# Altium footprint library Wurth_Elektronik_Passive_rev16a.PCBLIB: 810 footprints (part 47 of 51)
Each footprint in its own frame and in the unit in brackets; x right, y up, seen from the top. Pads: shape width x height; smd on the part's side, far side on the other; paste and mask are expansions set on the pad; w line width, h text height; cw(c..) or ccw(c..) is an arc to the next point about the centre after c.
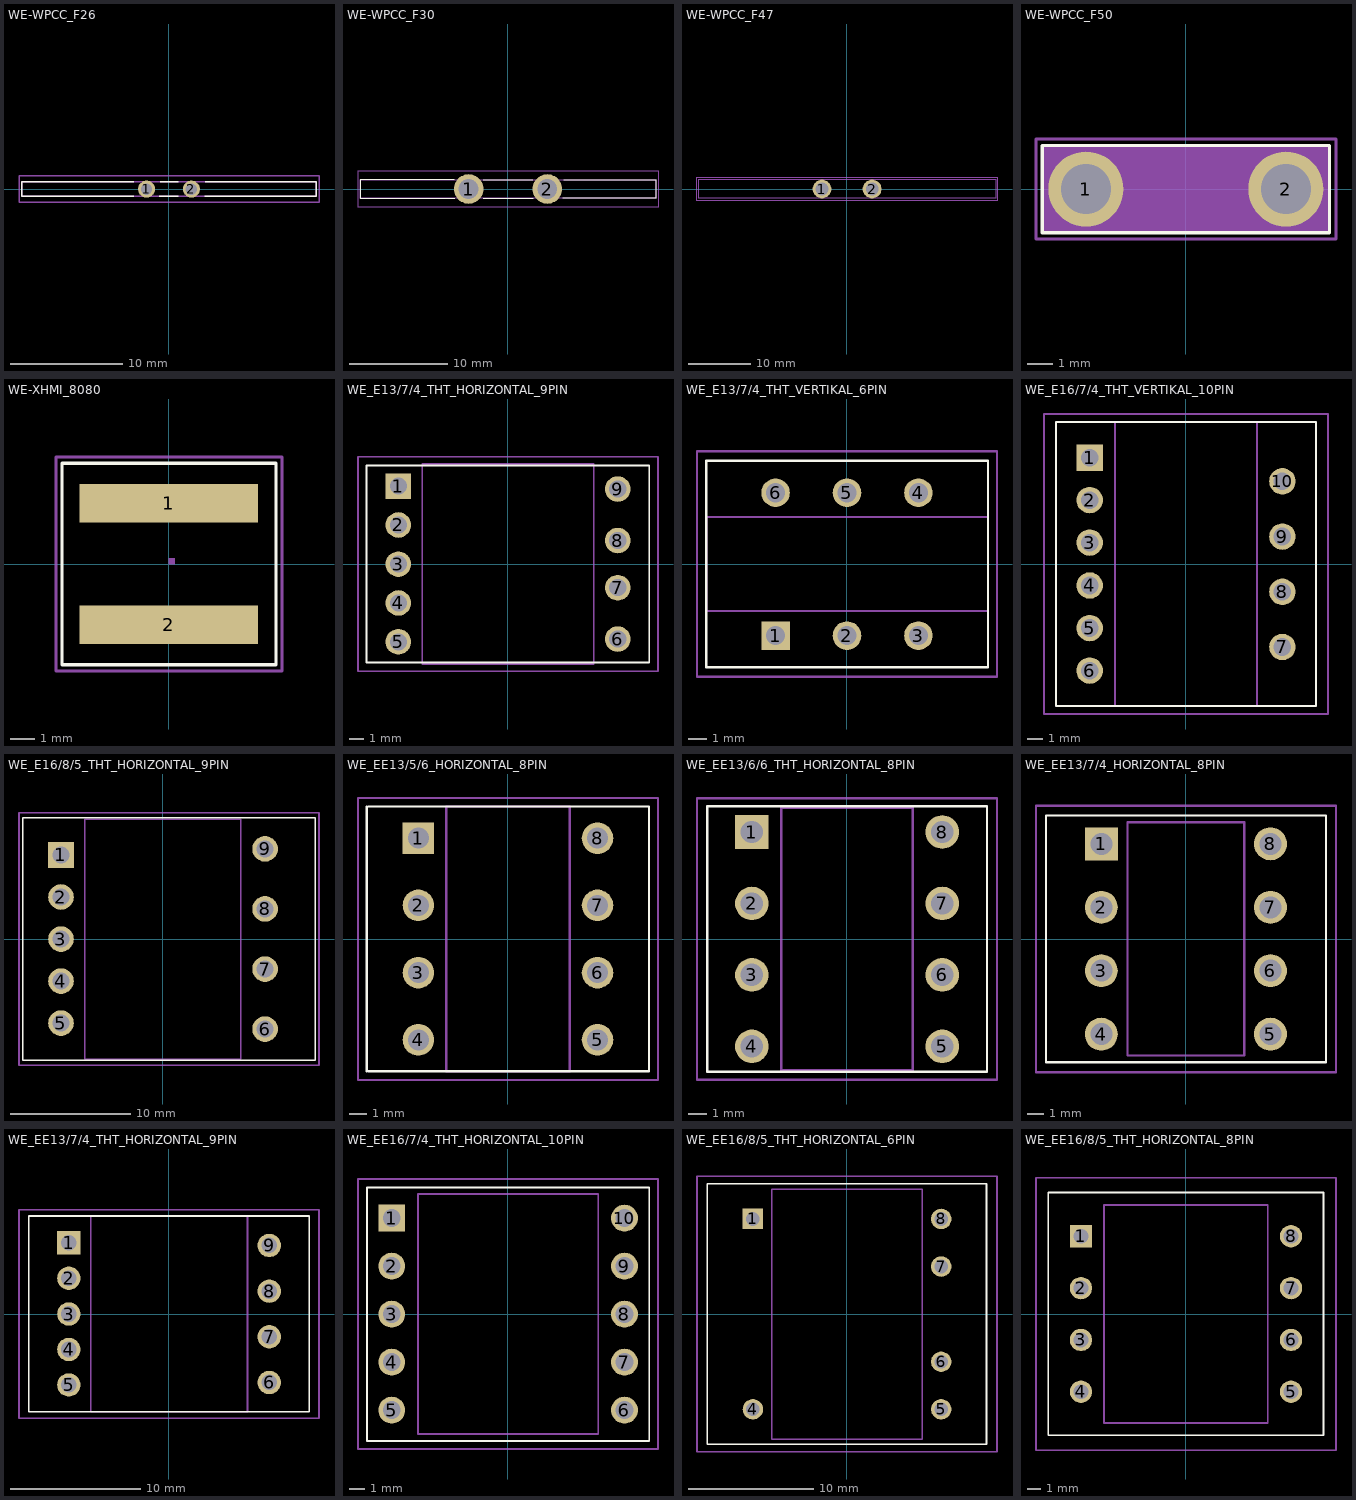
[diagram p46: the footprints below, top view; thin cyan lines are the x and y axes]

## WE-WPCC_F26 [mil]
pads (2):
  round 60 hole 40: 1(-78.74,0) 2(79,0)
Top Overlay:
  lines w5: -124.41,-25.79 -518.11,-25.79 -518.11,26 -124.41,26 ; -33.46,-25.79 33,-25.79 ; -30.32,26 32,26 ; 126,-25.79 519,-25.79 519,26 127,26
Mechanical 2:
  text ">Name" at -78.74,75 h77.5
Mechanical 4:
  text ">Value" at -78.35,-112.6 h77.5
Mechanical 16:
  lines w5: -517.72,-25.79 518,-25.79 518,26 -517.72,26 -517.72,-25.79
Mechanical 27:
  lines w5: -527.56,-46.06 528,-46.06 528,47 -527.56,47 -527.56,-46.06

## WE-WPCC_F30 [mil]
pads (2):
  round 118.5 hole 79: 1(-157.48,0) 2(158,0)
Top Overlay:
  lines w5: -215.35,38 -590.55,38 -590.55,-37.4 -212.99,-37.4 ; -98.43,-37.4 101,-37.4 ; -98.03,38 99,38 ; 220,-37.4 591,-37.4 591,38 223,38
Mechanical 2:
  text ">Name" at -94.49,99 h77.5
Mechanical 4:
  text ">Value" at -102.36,-133.86 h77.5
Mechanical 16:
  lines w5: -590.55,-37.4 591,-37.4 591,38 -590.55,38 -590.55,-37.4
Mechanical 27:
  lines w5: -600.39,-72.83 601,-72.83 601,73 -600.39,73 -600.39,-72.83

## WE-WPCC_F47 [mil]
pads (2):
  round 118.5 hole 79: 1(-157.48,0) 2(158,0)
Mechanical 2:
  text ">Name" at -94.49,99 h77.5
Mechanical 4:
  text ">Value" at -102.36,-133.86 h77.5
Mechanical 16:
  lines w5: -935.04,-59.06 936,-59.06 936,60 -935.04,60 -935.04,-59.06
Mechanical 27:
  lines w5: -944.88,-72.83 945,-72.83 945,73 -944.88,73 -944.88,-72.83

## WE-WPCC_F50 [mil]
pads (2):
  round 118.5 hole 79: 1(-157.48,0) 2(158,0)
Top Overlay:
  lines w5: -226.38,-68.9 -226.38,69 227,69 227,-68.9 -226.38,-68.9
Mechanical 2:
  text ">NAME" at -150,100 h77.5
Mechanical 4:
  text ">VALUE" at -150,-150 h77.5
Mechanical 10:
  rectangle: -226.38,-68.9 227,69
Mechanical 27:
  lines w5: -236.22,-78.74 -236.22,79 237,79 237,-78.74 -236.22,-78.74

## WE-XHMI_8080 [mil]
pads (2):
  rect 290x63 smd: 1(0,99) 2(0,-98.43)
Top Overlay:
  lines w5: -173.23,-163.39 174,-163.39 174,164 -173.23,164 -173.23,-163.39
Mechanical 2:
  text ">NAME" at -200,200 h77.5
Mechanical 4:
  text ">VALUE" at -200,-250 h77.5
Mechanical 10:
  region: 0,0 10,0 10,10 0,10
Mechanical 27:
  lines w5: -183.07,-173.23 184,-173.23 184,174 -183.07,174 -183.07,-173.23

## WE_E13/7/4_THT_HORIZONTAL_9PIN [mil]
pads (9):
  rect 70.5x70.5 hole 47: 1(-302.17,215)
  round 70.5 hole 47: 2(-302.17,108) 3(-302.17,0) 4(-302.17,-107.09) 5(-302.17,-214.17) 6(303,-206.69) 7(303,-64.96) 8(303,65) 9(303,207)
Top Overlay:
  lines w5: -389.76,-271.65 390,-271.65 390,272 -389.76,272 -389.76,-271.65
Mechanical 2:
  text ">NAME" at -334.65,296 h77.5
Mechanical 4:
  text ">VALUE" at -334.65,-354.33 h77.5
Mechanical 10:
  lines w5: -236.22,-275.59 237,-275.59 237,276 -236.22,276 -236.22,-275.59
Mechanical 27:
  lines w5: -413.39,-295.28 414,-295.28 414,296 -413.39,296 -413.39,-295.28

## WE_E13/7/4_THT_VERTIKAL_6PIN [mil]
pads (6):
  rect 60x60 hole 40: 1(-150,-150)
  round 60 hole 40: 2(0,-150) 3(150,-150) 4(150,150) 5(0,150) 6(-150,150)
Top Overlay:
  lines w5: -295.28,-216.54 -295.28,217 296,217 296,-216.54 -295.28,-216.54
Mechanical 2:
  text ">NAME" at -334.65,-216.54 h77.5
Mechanical 4:
  text ">VALUE" at 375,-216.54 h77.5
Mechanical 10:
  lines w5: -295.28,-98.43 296,-98.43 296,99 -295.28,99 -295.28,-98.43
Mechanical 27:
  lines w5: -314.96,-236.22 315,-236.22 315,237 -314.96,237 -314.96,-236.22

## WE_E16/7/4_THT_VERTIKAL_10PIN [mil]
pads (10):
  rect 66x66 hole 44: 1(-240.16,266)
  round 66 hole 44: 2(-240.16,160) 3(-240.16,54) 4(-240.16,-53.15) 5(-240.16,-159.45) 6(-240.16,-265.75) 7(241,-206.69) 8(241,-68.9) 9(241,69) 10(241,207)
Top Overlay:
  lines w5: -324.8,-354.33 325,-354.33 325,355 -324.8,355 -324.8,-354.33
Mechanical 2:
  text ">NAME" at -324.8,384 h77.5
Mechanical 4:
  text ">VALUE" at -324.8,-433.07 h77.5
Mechanical 10:
  lines w5: -177.17,-354.33 178,-354.33 178,355 -177.17,355 -177.17,-354.33
Mechanical 27:
  lines w5: -354.33,-374.02 355,-374.02 355,375 -354.33,375 -354.33,-374.02

## WE_E16/8/5_THT_HORIZONTAL_9PIN [mil]
pads (9):
  rect 84x84 hole 56: 1(-334.65,276)
  round 84 hole 56: 2(-334.65,138) 3(-334.65,0) 4(-334.65,-137.8) 5(-334.65,-275.59) 6(335,-295.28) 7(335,-98.43) 8(335,99) 9(335,296)
Top Overlay:
  lines w5: -460.63,-397.64 -460.63,398 500,398 500,-397.64 -460.63,-397.64
Mechanical 2:
  text ">NAME" at -452.76,434 h77.5
Mechanical 4:
  text ">VALUE" at -452.76,-492.13 h77.5
Mechanical 10:
  lines w5: -255.91,-393.7 256,-393.7 256,394 -255.91,394 -255.91,-393.7
Mechanical 27:
  lines w5: -472.44,-413.39 512,-413.39 512,414 -472.44,414 -472.44,-413.39

## WE_EE13/5/6_HORIZONTAL_8PIN [mil]
pads (8):
  rect 70.5x70.5 hole 47: 1(-199.8,225)
  round 70.5 hole 47: 2(-199.8,75) 3(-199.8,-75) 4(-199.8,-225) 5(200,-225) 6(200,-75) 7(200,75) 8(200,225)
Top Overlay:
  lines w5: -314.96,-295.28 -314.96,296 ; -311.02,-295.28 312,-295.28 ; -311.02,296 312,296 ; 315,-295.28 315,296
Mechanical 2:
  text ">NAME" at -275.59,315 h77.5
Mechanical 4:
  text ">VALUE" at -275.59,-374.02 h77.5
Mechanical 10:
  lines w5: -137.8,-295.28 138,-295.28 138,296 -137.8,296 -137.8,-295.28
Mechanical 27:
  lines w5: -334.65,-314.96 335,-314.96 335,315 -334.65,315 -334.65,-314.96

## WE_EE13/6/6_THT_HORIZONTAL_8PIN [mil]
pads (8):
  rect 70.5x70.5 hole 47: 1(-199.8,225)
  round 70.5 hole 47: 2(-199.8,75) 3(-199.8,-75) 4(-199.8,-225) 5(200,-225) 6(200,-75) 7(200,75) 8(200,225)
Top Overlay:
  lines w5: -293.31,-278.54 294,-278.54 294,279 -293.31,279 -293.31,-278.54
Mechanical 2:
  text ">NAME" at -275.59,355 h77.5
Mechanical 4:
  text ">VALUE" at -275.59,-413.39 h77.5
Mechanical 10:
  lines w5: -137.8,-275.59 138,-275.59 138,276 -137.8,276 -137.8,-275.59
Mechanical 27:
  lines w5: -314.96,-295.28 315,-295.28 315,296 -314.96,296 -314.96,-295.28

## WE_EE13/7/4_HORIZONTAL_8PIN [mil]
pads (8):
  rect 78x78 hole 52: 1(-200,225)
  round 78 hole 52: 2(-200,75) 3(-200,-75) 4(-200,-225) 5(200,-225) 6(200,-75) 7(200,75) 8(200,225)
Top Overlay:
  lines w5: -330.71,-291.34 -330.71,292 331,292 331,-291.34 -330.71,-291.34
Mechanical 2:
  text ">NAME" at -295.28,315 h77.5
Mechanical 4:
  text ">VALUE" at -295.28,-374.02 h77.5
Mechanical 10:
  lines w5: -137.8,-275.59 138,-275.59 138,276 -137.8,276 -137.8,-275.59
Mechanical 27:
  lines w5: -354.33,-314.96 355,-314.96 355,315 -354.33,315 -354.33,-314.96

## WE_EE13/7/4_THT_HORIZONTAL_9PIN [mil]
pads (9):
  rect 70.5x70.5 hole 47: 1(-302.17,215)
  round 70.5 hole 47: 2(-302.17,108) 3(-302.17,0) 4(-302.17,-107.09) 5(-302.17,-214.17) 6(303,-206.69) 7(303,-68.9) 8(303,69) 9(303,207)
Top Overlay:
  lines w5: -423.23,-295.28 424,-295.28 424,296 -423.23,296 -423.23,-295.28
Mechanical 2:
  text ">NAME" at -334.65,375 h77.5
Mechanical 4:
  text ">VALUE" at -334.65,-433.07 h77.5
Mechanical 10:
  lines w5: -236.22,-295.28 237,-295.28 237,296 -236.22,296 -236.22,-295.28
Mechanical 27:
  lines w5: -452.76,-314.96 453,-314.96 453,315 -452.76,315 -452.76,-314.96

## WE_EE16/7/4_THT_HORIZONTAL_10PIN [mil]
pads (10):
  rect 70.5x70.5 hole 47: 1(-305.12,252)
  round 70.5 hole 47: 2(-305.12,126) 3(-305.12,0) 4(-305.12,-125.98) 5(-305.12,-251.97) 6(306,-251.97) 7(306,-125.98) 8(306,0) 9(306,126) 10(306,252)
Top Overlay:
  lines w5: -370.08,-332.68 371,-332.68 371,333 -370.08,333 -370.08,-332.68
Mechanical 2:
  text ">NAME" at -374.02,375 h77.5
Mechanical 4:
  text ">VALUE" at -374.02,-413.39 h77.5
Mechanical 10:
  lines w5: -236.22,-314.96 237,-314.96 237,315 -236.22,315 -236.22,-314.96
Mechanical 27:
  lines w5: -393.7,-354.33 394,-354.33 394,355 -393.7,355 -393.7,-354.33

## WE_EE16/8/5_THT_HORIZONTAL_6PIN [mil]
pads (6):
  rect 64.5x64.5 hole 43: 1(-296.26,300)
  round 64.5 hole 43: 4(-296.26,-300) 5(297,-300) 6(297,-150) 7(297,150) 8(297,300)
Top Overlay:
  lines w5: -439.96,-410.04 440,-410.04 440,411 -439.96,411 -439.96,-410.04
Mechanical 2:
  text ">NAME" at -539.21,548 h77.5
Mechanical 4:
  text ">VALUE" at -539.21,-617.24 h77.5
Mechanical 10:
  lines w5: -236.22,-393.7 237,-393.7 237,394 -236.22,394 -236.22,-393.7
Mechanical 27:
  lines w5: -472.44,-433.07 473,-433.07 473,434 -472.44,434 -472.44,-433.07

## WE_EE16/8/5_THT_HORIZONTAL_8PIN [mil]
pads (8):
  rect 64.5x64.5 hole 43: 1(-303.15,225)
  round 64.5 hole 43: 2(-303.15,75) 3(-303.15,-74.8) 4(-303.15,-224.41) 5(304,-224.41) 6(304,-74.8) 7(304,75) 8(304,225)
Top Overlay:
  lines w5: -397.64,-350.39 398,-350.39 398,351 -397.64,351 -397.64,-350.39
Mechanical 2:
  text ">NAME" at -393.7,434 h77.5
Mechanical 4:
  text ">VALUE" at -393.7,-492.13 h77.5
Mechanical 10:
  lines w5: -236.22,-314.96 237,-314.96 237,315 -236.22,315 -236.22,-314.96
Mechanical 27:
  lines w5: -433.07,-393.7 434,-393.7 434,394 -433.07,394 -433.07,-393.7